# Altium schematic symbol library POPA2328DGKR.SchLib: 1 symbol
Pins are listed as number, name and electrical type; pins without a type are passive.

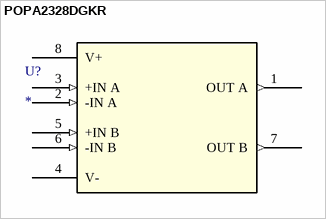
[diagram p0: symbol POPA2328DGKR]

## POPA2328DGKR
designator U?
Dual-channel, precision, 50-µV offset voltage, 40-MHz wide-bandwidth RRIO CMOS op amp; Mfr_Name: Texas Instruments; RefDes: RefDes; Type: Type; Supplier 1: Mouser; Supplier Part Number 1: 595-OPA2328DGKR
footprint SO8_DGK_TEX
pins: 1 OUT A (out), 2 -IN A (in), 3 +IN A (in), 4 V- (power), 5 +IN B (in), 6 -IN B (in), 7 OUT B (out), 8 V+ (power)